# Altium integrated library LF_SFF_AC.IntLib: 18 symbols
Pins are listed as number, name and electrical type; pins without a type are passive.

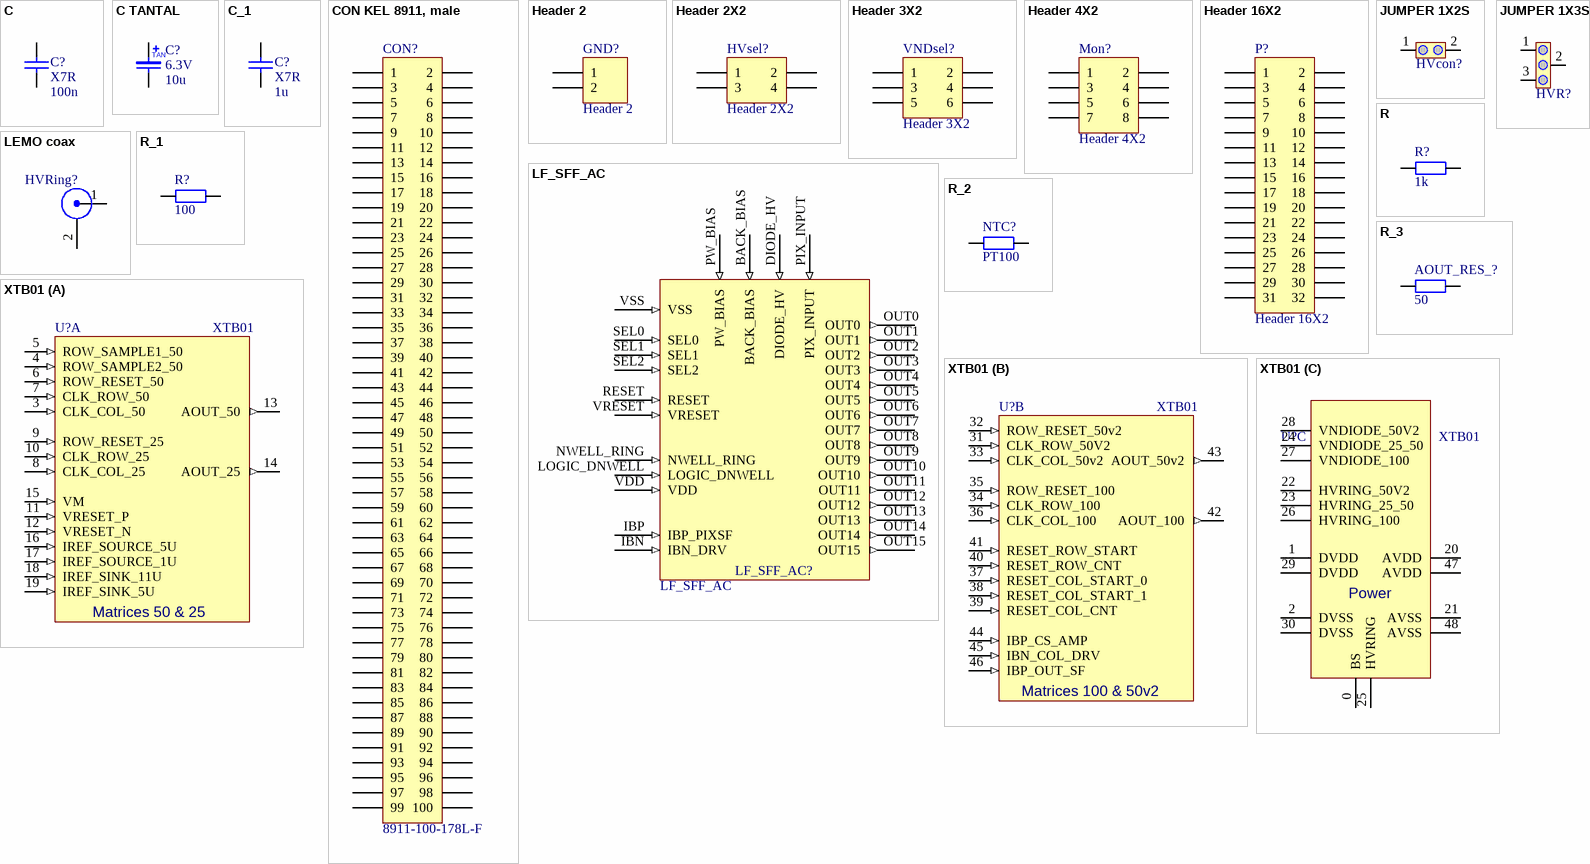
[diagram p0: symbols C to XTB01]

## C
designator C?, comment X7R  value 100n
Capacitor; Constraints: 6.3V; Class: Passive; Type_1: SMD Chip Capacitor; Comment_1: -; LatestRevisionDate: 27-Nov-2007; Publisher: Silab J.S.; HelpURL: -; PackageDescription: -
signal-integrity model Capacitor
simulation model Capacitor
footprint AXIAL-0.4
footprint 2320
footprint 5040 (HV capacitor in SMD 5040)
footprint AXIAL-5mm
footprint C0402_imp_L (Chip Capacitor, Body 1.0x0.5mm, IPC High Density)
footprint C0402_imp_M (Chip Capacitor, Body 1.0x0.5mm, IPC Low Density)
footprint C0402_imp_N (Chip Capacitor, Body 1.0x0.5mm, IPC Medium Density)
footprint C0603_imp_L (Chip Capacitor, Body 1.6x0.8mm, IPC High Density)
footprint C0603_imp_M (Chip Capacitor, Body 1.6x0.8mm, IPC Low Density)
footprint C0603_imp_N (Chip Capacitor, Body 1.6x0.8mm, IPC Medium Density)
footprint C0805_imp_L (Chip Capacitor, Body 2.0x1.3mm, IPC High Density)
footprint C0805_imp_M (Chip Capacitor, Body 2.0x1.3mm, IPC Low Density)
footprint C0805_imp_N (Chip Capacitor, Body 2.0x1.3mm, IPC Medium Density)
footprint C1005_met_L (Chip Capacitor, Body 1.0x0.5mm, IPC High Density)
footprint C1005_met_M (Chip Capacitor, Body 1.0x0.5mm, IPC Low Density)
footprint C1005_met_N (Chip Capacitor, Body 1.0x0.5mm, IPC Medium Density)
footprint C1206_imp_L (Chip Capacitor, Body 3.2x1.6mm, IPC High Density)
footprint C1206_imp_M (Chip Capacitor, Body 3.2x1.6mm, IPC Low Density)
footprint C1206_imp_N (Chip Capacitor, Body 3.2x1.6mm, IPC Medium Density)
footprint C1210_met_L (Chip Capacitor, Body 1.2x1.0mm, IPC High Density)
footprint C1210_met_M (Chip Capacitor, Body 1.2x1.0mm, IPC Low Density)
footprint C1210_met_N (Chip Capacitor, Body 1.2x1.0mm, IPC Medium Density)
footprint C1210_imp_L (Chip Capacitor, Body 3.2x2.5mm, IPC High Density)
footprint C1210_imp_M (Chip Capacitor, Body 3.2x2.5mm, IPC Low Density)
footprint C1210_imp_N (Chip Capacitor, Body 3.2x2.5mm, IPC Medium Density)
footprint C1608_met_L (Chip Capacitor, Body 1.6x0.8mm, IPC High Density)
footprint C1608_met_M (Chip Capacitor, Body 1.6x0.8mm, IPC Low Density)
footprint C1608_met_N (Chip Capacitor, Body 1.6x0.8mm, IPC Medium Density)
footprint C1812_imp_L (Chip Capacitor, Body 4.5x3.2mm, IPC High Density)
footprint C1812_imp_M (Chip Capacitor, Body 4.5x3.2mm, IPC Low Density)
footprint C1812_imp_N (Chip Capacitor, Body 4.5x3.2mm, IPC Medium Density)
footprint C2012_met_L (Chip Capacitor, Body 2.0x1.3mm, IPC High Density)
footprint C2012_met_M (Chip Capacitor, Body 2.0x1.3mm, IPC Low Density)
footprint C2012_met_N (Chip Capacitor, Body 2.0x1.3mm, IPC Medium Density)
footprint C2220_imp_L (Chip Capacitor, Body 5.7x5.0mm, IPC High Density)
footprint C2220_imp_M (Chip Capacitor, Body 5.7x5.0mm, IPC Low Density)
footprint C2220_imp_N (Chip Capacitor, Body 5.7x5.0mm, IPC Medium Density)
footprint C3216_met_L (Chip Capacitor, Body 3.2x1.6mm, IPC High Density)
footprint C3216_met_M (Chip Capacitor, Body 3.2x1.6mm, IPC Low Density)
footprint C3216_met_N (Chip Capacitor, Body 3.2x1.6mm, IPC Medium Density)
footprint C3225_met_L (Chip Capacitor, Body 3.2x2.5mm, IPC High Density)
footprint C3225_met_M (Chip Capacitor, Body 3.2x2.5mm, IPC Low Density)
footprint C3225_met_N (Chip Capacitor, Body 3.2x2.5mm, IPC Medium Density)
footprint C4532_met_L (Chip Capacitor, Body 4.5x3.2mm, IPC High Density)
footprint C4532_met_M (Chip Capacitor, Body 4.5x3.2mm, IPC Low Density)
footprint C4532_met_N (Chip Capacitor, Body 4.5x3.2mm, IPC Medium Density)
footprint C4564_met_L (Chip Capacitor, Body 4.5x6.4mm, IPC High Density)
footprint C4564_met_M (Chip Capacitor, Body 4.5x6.4mm, IPC Low Density)
footprint C4564_met_N (Chip Capacitor, Body 4.5x6.4mm, IPC Medium Density)
footprint C5750_met_L (Chip Capacitor, Body 5.7x5.0mm, IPC High Density)
footprint C5750_met_M (Chip Capacitor, Body 5.7x5.0mm, IPC Low Density)
footprint C5750_met_N (Chip Capacitor, Body 5.7x5.0mm, IPC Medium Density)
footprint C0402 BGA-Decoupling (1mm Pitch) (Keramikkapazität 0402 spezielles Footprint für BGA-Decoupling (1mm Pitch) an der Unterseite)
footprint AXIAL-15mm
footprint C_RM_2.54 (Stützkondensator)
footprint C_RM_5.08 (Stützkondensator)
pins: 1, 2

## C TANTAL
designator C?, comment value 10u  Constraints: 6.3V  (hidden comment: -)
Tantal Capacitor; Class: Passive; Type_1: SMD Tantal Capacitor; LatestRevisionDate: 27-Nov-2007; Publisher: Silab J.S.; Comment_1: -; HelpURL: -; PackageDescription: -
simulation model CAP (Capacitor)
signal-integrity model Cap Pol
footprint TANTAL-A (SMD Tantal Bauf. A)
footprint TANTAL-B (SMD Tantal Bauf. B)
footprint TANTAL-C (SMD Tantal Bauf. C)
footprint TANTAL-D (SMD Tantal Bauf. D)
footprint TANTAL-E (SMD Tantal Bauf. E)
footprint AXIAL-5mm
footprint C1206_imp_M (Chip Capacitor, Body 3.2x1.6mm, IPC Low Density)
footprint C1206_imp_N (Chip Capacitor, Body 3.2x1.6mm, IPC Medium Density)
footprint C1206_imp_L (Chip Capacitor, Body 3.2x1.6mm, IPC High Density)
pins: 1, 2
1 alternate drawing of the same symbol
text: TAN

## C_1
designator C?, comment X7R  value 1u
Capacitor; Constraints: 6.3V; Class: Passive; Type_1: SMD Chip Capacitor; Comment_1: -; LatestRevisionDate: 27-Nov-2007; Publisher: Silab J.S.; HelpURL: -; PackageDescription: -
signal-integrity model Capacitor
simulation model Capacitor
footprint AXIAL-0.4
footprint 2320
footprint 5040 (HV capacitor in SMD 5040)
footprint AXIAL-5mm
footprint C0402_imp_L (Chip Capacitor, Body 1.0x0.5mm, IPC High Density)
footprint C0402_imp_M (Chip Capacitor, Body 1.0x0.5mm, IPC Low Density)
footprint C0402_imp_N (Chip Capacitor, Body 1.0x0.5mm, IPC Medium Density)
footprint C0603_imp_L (Chip Capacitor, Body 1.6x0.8mm, IPC High Density)
footprint C0603_imp_M (Chip Capacitor, Body 1.6x0.8mm, IPC Low Density)
footprint C0603_imp_N (Chip Capacitor, Body 1.6x0.8mm, IPC Medium Density)
footprint C0805_imp_L (Chip Capacitor, Body 2.0x1.3mm, IPC High Density)
footprint C0805_imp_M (Chip Capacitor, Body 2.0x1.3mm, IPC Low Density)
footprint C0805_imp_N (Chip Capacitor, Body 2.0x1.3mm, IPC Medium Density)
footprint C1005_met_L (Chip Capacitor, Body 1.0x0.5mm, IPC High Density)
footprint C1005_met_M (Chip Capacitor, Body 1.0x0.5mm, IPC Low Density)
footprint C1005_met_N (Chip Capacitor, Body 1.0x0.5mm, IPC Medium Density)
footprint C1206_imp_L (Chip Capacitor, Body 3.2x1.6mm, IPC High Density)
footprint C1206_imp_M (Chip Capacitor, Body 3.2x1.6mm, IPC Low Density)
footprint C1206_imp_N (Chip Capacitor, Body 3.2x1.6mm, IPC Medium Density)
footprint C1210_met_L (Chip Capacitor, Body 1.2x1.0mm, IPC High Density)
footprint C1210_met_M (Chip Capacitor, Body 1.2x1.0mm, IPC Low Density)
footprint C1210_met_N (Chip Capacitor, Body 1.2x1.0mm, IPC Medium Density)
footprint C1210_imp_L (Chip Capacitor, Body 3.2x2.5mm, IPC High Density)
footprint C1210_imp_M (Chip Capacitor, Body 3.2x2.5mm, IPC Low Density)
footprint C1210_imp_N (Chip Capacitor, Body 3.2x2.5mm, IPC Medium Density)
footprint C1608_met_L (Chip Capacitor, Body 1.6x0.8mm, IPC High Density)
footprint C1608_met_M (Chip Capacitor, Body 1.6x0.8mm, IPC Low Density)
footprint C1608_met_N (Chip Capacitor, Body 1.6x0.8mm, IPC Medium Density)
footprint C1812_imp_L (Chip Capacitor, Body 4.5x3.2mm, IPC High Density)
footprint C1812_imp_M (Chip Capacitor, Body 4.5x3.2mm, IPC Low Density)
footprint C1812_imp_N (Chip Capacitor, Body 4.5x3.2mm, IPC Medium Density)
footprint C2012_met_L (Chip Capacitor, Body 2.0x1.3mm, IPC High Density)
footprint C2012_met_M (Chip Capacitor, Body 2.0x1.3mm, IPC Low Density)
footprint C2012_met_N (Chip Capacitor, Body 2.0x1.3mm, IPC Medium Density)
footprint C2220_imp_L (Chip Capacitor, Body 5.7x5.0mm, IPC High Density)
footprint C2220_imp_M (Chip Capacitor, Body 5.7x5.0mm, IPC Low Density)
footprint C2220_imp_N (Chip Capacitor, Body 5.7x5.0mm, IPC Medium Density)
footprint C3216_met_L (Chip Capacitor, Body 3.2x1.6mm, IPC High Density)
footprint C3216_met_M (Chip Capacitor, Body 3.2x1.6mm, IPC Low Density)
footprint C3216_met_N (Chip Capacitor, Body 3.2x1.6mm, IPC Medium Density)
footprint C3225_met_L (Chip Capacitor, Body 3.2x2.5mm, IPC High Density)
footprint C3225_met_M (Chip Capacitor, Body 3.2x2.5mm, IPC Low Density)
footprint C3225_met_N (Chip Capacitor, Body 3.2x2.5mm, IPC Medium Density)
footprint C4532_met_L (Chip Capacitor, Body 4.5x3.2mm, IPC High Density)
footprint C4532_met_M (Chip Capacitor, Body 4.5x3.2mm, IPC Low Density)
footprint C4532_met_N (Chip Capacitor, Body 4.5x3.2mm, IPC Medium Density)
footprint C4564_met_L (Chip Capacitor, Body 4.5x6.4mm, IPC High Density)
footprint C4564_met_M (Chip Capacitor, Body 4.5x6.4mm, IPC Low Density)
footprint C4564_met_N (Chip Capacitor, Body 4.5x6.4mm, IPC Medium Density)
footprint C5750_met_L (Chip Capacitor, Body 5.7x5.0mm, IPC High Density)
footprint C5750_met_M (Chip Capacitor, Body 5.7x5.0mm, IPC Low Density)
footprint C5750_met_N (Chip Capacitor, Body 5.7x5.0mm, IPC Medium Density)
footprint C0402 BGA-Decoupling (1mm Pitch) (Keramikkapazität 0402 spezielles Footprint für BGA-Decoupling (1mm Pitch) an der Unterseite)
footprint AXIAL-15mm
footprint C_RM_2.54 (Stützkondensator)
footprint C_RM_5.08 (Stützkondensator)
pins: 1, 2

## CON KEL 8911, male
designator CON?, comment Type_1: 8911-100-178L-F  (hidden comment: -)
KEL 8911 100 pin board to board connector; Revision: July-2002: Re-released for DXP Platform.; Publisher: Silab J.S.; Class: Connector; Value: -; Constraints: -; HelpURL: http://www.kel.jp/english/product/Half_8900/8900.pdf; LatestRevisionDate:: 24-Sep-2008; Comment_1: KEL; PackageDescription: -
signal-integrity model Connector
footprint KEL 8911-100-178L-F, PLUG (100 pin plug,  board to board, right angle)
pins: 1, 2, 3, 4, 5, 6, 7, 8, 9, 10, 11, 12, 13, 14, 15, 16, 17, 18, 19, 20, 21, 22, 23, 24, 25, 26, 27, 28, 29, 30, 31, 32, 33, 34, 35, 36, 37, 38, 39, 40, 41, 42, 43, 44, 45, 46, 47, 48, 49, 50, 51, 52, 53, 54, 55, 56, 57, 58, 59, 60, 61, 62, 63, 64, 65, 66, 67, 68, 69, 70, 71, 72, 73, 74, 75, 76, 77, 78, 79, 80, 81, 82, 83, 84, 85, 86, 87, 88, 89, 90, 91, 92, 93, 94, 95, 96, 97, 98, 99, 100

## Header 2
designator GND?
Header, 2-Pin; LatestRevisionDate: 17-Jul-2002; LatestRevisionNote: Re-released for DXP Platform.; Publisher: Altium Limited
footprint HDR1X2 (Connector; Header; 2 Position)
signal-integrity model Connector
pins: 1, 2

## Header 2X2
designator HVsel?
Header, 2-Pin, Dual row; LatestRevisionDate: 17-Jul-2002; LatestRevisionNote: Re-released for DXP Platform.; Publisher: Altium Limited
footprint HDR2X2 (Connector; Header; 2x2 Position)
signal-integrity model Connector
pins: 1, 2, 3, 4

## Header 3X2
designator VNDsel?
Header, 3-Pin, Dual row; LatestRevisionDate: 17-Jul-2002; LatestRevisionNote: Re-released for DXP Platform.; Publisher: Altium Limited
footprint HDR2X3 (Connector; Header; 3x2 Position)
signal-integrity model Connector
pins: 1, 2, 3, 4, 5, 6

## Header 4X2
designator Mon?
Header, 4-Pin, Dual row; LatestRevisionDate: 17-Jul-2002; LatestRevisionNote: Re-released for DXP Platform.; Publisher: Altium Limited
footprint HDR2X4 (Connector; Header; 4x2 Position)
signal-integrity model Connector
pins: 1, 2, 3, 4, 5, 6, 7, 8

## Header 16X2
designator P?
Header, 16-Pin, Dual row; LatestRevisionDate: 17-Jul-2002; LatestRevisionNote: Re-released for DXP Platform.; Publisher: Altium Limited
footprint HDR2X16 (Connector; Header; 16x2 Position)
signal-integrity model Connector
pins: 1, 2, 3, 4, 5, 6, 7, 8, 9, 10, 11, 12, 13, 14, 15, 16, 17, 18, 19, 20, 21, 22, 23, 24, 25, 26, 27, 28, 29, 30, 31, 32

## JUMPER 1X2S
designator HVcon?, comment -  (value not drawn)
Jumper, Solderbridge 1x2; Class: Connector; Comment_1: -; Constraints: -; HelpURL: -; LatestRevisionDate: 24-Sep-2008; Publisher: Silab C.H.; Type_1: -; Value: -; PackageDescription: -
footprint Lötjumper 1x2 (Lötjumper, 2 Pins)
footprint CON 1x2 std
footprint Lötjumper 1x2 - small (Lötjumper, 2 Pins)
footprint solderbridge (SMT Lötbrücke)
footprint SOLDERJUMPER_0603N (Lötjumper, 2 Pins)
footprint solderjumper2 - large area (2 fach Lötjumper)
pins: 1, 2

## JUMPER 1X3S
designator HVR?, comment -  (value not drawn)
Jumper, Solderbridge 1x3; Class: Connector; Comment_1: -; Constraints: -; HelpURL: -; LatestRevisionDate: 24-Sep-2008; Publisher: Silab C.H.; Type_1: -; Value: -; PackageDescription: -
footprint Lötjumper 1x3 (3 fach Lötjumper)
footprint HDR 1x3 (Steckjumper 3 pins)
footprint Lötjumper 1x3 Midlayer1 (3 fach Lötjumper auf Midlayer1)
footprint solderjumper3 (3 fach Lötjumper)
footprint solderjumper3 - large area (3 fach Lötjumper)
pins: 1, 2, 3

## LEMO coax
designator HVRing?, comment -  (value not drawn)
LEMO/BNC Buchse, aufrecht od. gewinkelt; Class: Connector; Comment_1: LEMO; Type_1: EPL.00.250.NTN; Constraints: -; HelpURL: -; LatestRevisionDate: 24-Sep-2008; Publisher: Silab C.H.; Value: -; PackageDescription: -
footprint BNC (BNC Buchse)
footprint LEMO (LEMO Buchse)
footprint LEMO horiz. (LEMO Buchse, liegend)
footprint LEMO - Square GND Pins (LEMO Buchse, stehend, größere Löcher für GND Pins)
pins: 1, 2

## LF_SFF_AC
designator LF_SFF_AC?
footprint LF_SFF_AC_min_footprint (Footprint for the LF SFF AC pure chip without further components)
pins: BACK_BIAS (in), DIODE_HV (in), IBN IBN_DRV (in), IBP IBP_PIXSF (in), LOGIC_DNWELL (in), NWELL_RING (in), OUT0 (out), OUT1 (out), OUT2 (out), OUT3 (out), OUT4 (out), OUT5 (out), OUT6 (out), OUT7 (out), OUT8 (out), OUT9 (out), OUT10 (out), OUT11 (out), OUT12 (out), OUT13 (out), OUT14 (out), OUT15 (out), PIX_INPUT (in), PW_BIAS (in), RESET (in), SEL0 (in), SEL1 (in), SEL2 (in), VDD (in), VRESET (in), VSS (in)

## R
designator R?  value 1k  (hidden comment: R)
SMD Chip Resistor; Constraints: 1%; Class: Passive; Comment_1: -; Publisher: Silab J.S.; LatestRevisionDate: 27-Nov-2007; HelpURL: -; Type_1: SMD Chip Resistor; PackageDescription: -
signal-integrity model Resistor
simulation model Resistor
footprint AXIAL-0.4
footprint 0603 Midlayer1
footprint 1206 Midlayer1
footprint CR1005-0402 (Chip Resistor; Body 1.1 x 0.5 mm (LxW typ))
footprint R0201_imp_L (Chip Resistor, Body 0.6x0.3mm, IPC High Density)
footprint R0201_imp_M (Chip Resistor, Body 0.6x0.3mm, IPC Low Density)
footprint R0201_imp_N (Chip Resistor, Body 0.6x0.3mm, IPC Medium Density)
footprint R0402_imp_L (Chip Resistor, Body 1.1x0.5mm, IPC High Density)
footprint R0402_imp_M (Chip Resistor, Body 1.1x0.5mm, IPC Low Density)
footprint R0402_imp_N (Chip Resistor, Body 1.1x0.5mm, IPC Medium Density)
footprint R0525_met_L (Chip Resistor, Body 0.6x0.3mm, IPC High Density)
footprint R0525_met_M (Chip Resistor, Body 0.6x0.3mm, IPC Low Density)
footprint R0525_met_N (Chip Resistor, Body 0.6x0.3mm, IPC Medium Density)
footprint R0603_imp_N (Chip Resistor, Body 1.6x0.8mm, IPC Medium Density)
footprint R0603_imp_M (Chip Resistor, Body 1.6x0.8mm, IPC Low Density)
footprint R0603_imp_L (Chip Resistor, Body 1.6x0.8mm, IPC High Density)
footprint R0805_imp_L (Chip Resistor, Body 2.0x1.3mm, IPC High Density)
footprint R0805_imp_M (Chip Resistor, Body 2.0x1.3mm, IPC Low Density)
footprint R0805_imp_N (Chip Resistor, Body 2.0x1.3mm, IPC Medium Density)
footprint R1005_met_L (Chip Resistor, Body 1.1x0.5mm, IPC High Density)
footprint R1005_met_M (Chip Resistor, Body 1.1x0.5mm, IPC Low Density)
footprint R1005_met_N (Chip Resistor, Body 1.1x0.5mm, IPC Medium Density)
footprint R1206_imp_L (Chip Resistor, Body 3.2x1.6mm, IPC High Density)
footprint R1206_imp_M (Chip Resistor, Body 3.2x1.6mm, IPC Low Density)
footprint R1206_imp_N (Chip Resistor, Body 3.2x1.6mm, IPC Medium Density)
footprint R1210_imp_L (Chip Resistor, Body 3.2x2.5mm, IPC High Density)
footprint R1210_imp_M (Chip Resistor, Body 3.2x2.5mm, IPC Low Density)
footprint R1210_imp_N (Chip Resistor, Body 3.2x2.5mm, IPC Medium Density)
footprint R1608_met_L (Chip Resistor, Body 1.6x0.8mm, IPC High Density)
footprint R1608_met_M (Chip Resistor, Body 1.6x0.8mm, IPC Low Density)
footprint R1608_met_N (Chip Resistor, Body 1.6x0.8mm, IPC Medium Density)
footprint R2010_imp_L (Chip Resistor, Body 5.0x2.5mm, IPC High Density)
footprint R2010_imp_M (Chip Resistor, Body 5.0x2.5mm, IPC Low Density)
footprint R2010_imp_N (Chip Resistor, Body 5.0x2.5mm, IPC Medium Density)
footprint R2012_met_L (Chip Resistor, Body 2.0x1.3mm, IPC High Density)
footprint R2012_met_M (Chip Resistor, Body 2.0x1.3mm, IPC Low Density)
footprint R2012_met_N (Chip Resistor, Body 2.0x1.3mm, IPC Medium Density)
footprint R2512_imp_L (Chip Resistor, Body 6.3x3.2mm, IPC High Density)
footprint R2512_imp_M (Chip Resistor, Body 6.3x3.2mm, IPC Low Density)
footprint R2512_imp_N (Chip Resistor, Body 6.3x3.2mm, IPC Medium Density)
footprint R3216_met_L (Chip Resistor, Body 3.2x1.6mm, IPC High Density)
footprint R3216_met_M (Chip Resistor, Body 3.2x1.6mm, IPC Low Density)
footprint R3216_met_N (Chip Resistor, Body 3.2x1.6mm, IPC Medium Density)
footprint R3225_met_L (Chip Resistor, Body 3.2x2.5mm, IPC High Density)
footprint R3225_met_M (Chip Resistor, Body 3.2x2.5mm, IPC Low Density)
footprint R3225_met_N (Chip Resistor, Body 3.2x2.5mm, IPC Medium Density)
footprint R4532_met_L (Chip Resistor, Body 4.5x3.2mm, IPC High Density)
footprint R4532_met_M (Chip Resistor, Body 4.5x3.2mm, IPC Low Density)
footprint R4532_met_N (Chip Resistor, Body 4.5x3.2mm, IPC Medium Density)
footprint R5025_met_L (Chip Resistor, Body 5.0x2.5mm, IPC High Density)
footprint R5025_met_M (Chip Resistor, Body 5.0x2.5mm, IPC Low Density)
footprint R5025_met_N (Chip Resistor, Body 5.0x2.5mm, IPC Medium Density)
footprint R6332_met_L (Chip Resistor, Body 6.3x3.2mm, IPC High Density)
footprint R6332_met_M (Chip Resistor, Body 6.3x3.2mm, IPC Low Density)
footprint R6332_met_N (Chip Resistor, Body 6.3x3.2mm, IPC Medium Density)
footprint R2010_IMP_Isabellenhütte (Chip Resistor, Body 5.08 x 2.54mm, Isabellenhütte Shunt Resistor)
footprint R2512_IMP_Isabellenhütte (Chip Resistor, Body 6.35 x 3.05mm, Isabellenhütte Shunt Resistor)
footprint AXIAL-0.6
pins: 1, 2

## R_1
designator R?, comment value 100  (hidden comment: R)
SMD Chip Resistor; Constraints: 1%; Class: Passive; Comment_1: -; Publisher: Silab J.S.; LatestRevisionDate: 27-Nov-2007; HelpURL: -; Type_1: SMD Chip Resistor; PackageDescription: -
signal-integrity model Resistor
simulation model Resistor
footprint AXIAL-0.4
footprint 0603 Midlayer1
footprint 1206 Midlayer1
footprint CR1005-0402 (Chip Resistor; Body 1.1 x 0.5 mm (LxW typ))
footprint R0201_imp_L (Chip Resistor, Body 0.6x0.3mm, IPC High Density)
footprint R0201_imp_M (Chip Resistor, Body 0.6x0.3mm, IPC Low Density)
footprint R0201_imp_N (Chip Resistor, Body 0.6x0.3mm, IPC Medium Density)
footprint R0402_imp_L (Chip Resistor, Body 1.1x0.5mm, IPC High Density)
footprint R0402_imp_M (Chip Resistor, Body 1.1x0.5mm, IPC Low Density)
footprint R0402_imp_N (Chip Resistor, Body 1.1x0.5mm, IPC Medium Density)
footprint R0525_met_L (Chip Resistor, Body 0.6x0.3mm, IPC High Density)
footprint R0525_met_M (Chip Resistor, Body 0.6x0.3mm, IPC Low Density)
footprint R0525_met_N (Chip Resistor, Body 0.6x0.3mm, IPC Medium Density)
footprint R0603_imp_N (Chip Resistor, Body 1.6x0.8mm, IPC Medium Density)
footprint R0603_imp_M (Chip Resistor, Body 1.6x0.8mm, IPC Low Density)
footprint R0603_imp_L (Chip Resistor, Body 1.6x0.8mm, IPC High Density)
footprint R0805_imp_L (Chip Resistor, Body 2.0x1.3mm, IPC High Density)
footprint R0805_imp_M (Chip Resistor, Body 2.0x1.3mm, IPC Low Density)
footprint R0805_imp_N (Chip Resistor, Body 2.0x1.3mm, IPC Medium Density)
footprint R1005_met_L (Chip Resistor, Body 1.1x0.5mm, IPC High Density)
footprint R1005_met_M (Chip Resistor, Body 1.1x0.5mm, IPC Low Density)
footprint R1005_met_N (Chip Resistor, Body 1.1x0.5mm, IPC Medium Density)
footprint R1206_imp_L (Chip Resistor, Body 3.2x1.6mm, IPC High Density)
footprint R1206_imp_M (Chip Resistor, Body 3.2x1.6mm, IPC Low Density)
footprint R1206_imp_N (Chip Resistor, Body 3.2x1.6mm, IPC Medium Density)
footprint R1210_imp_L (Chip Resistor, Body 3.2x2.5mm, IPC High Density)
footprint R1210_imp_M (Chip Resistor, Body 3.2x2.5mm, IPC Low Density)
footprint R1210_imp_N (Chip Resistor, Body 3.2x2.5mm, IPC Medium Density)
footprint R1608_met_L (Chip Resistor, Body 1.6x0.8mm, IPC High Density)
footprint R1608_met_M (Chip Resistor, Body 1.6x0.8mm, IPC Low Density)
footprint R1608_met_N (Chip Resistor, Body 1.6x0.8mm, IPC Medium Density)
footprint R2010_imp_L (Chip Resistor, Body 5.0x2.5mm, IPC High Density)
footprint R2010_imp_M (Chip Resistor, Body 5.0x2.5mm, IPC Low Density)
footprint R2010_imp_N (Chip Resistor, Body 5.0x2.5mm, IPC Medium Density)
footprint R2012_met_L (Chip Resistor, Body 2.0x1.3mm, IPC High Density)
footprint R2012_met_M (Chip Resistor, Body 2.0x1.3mm, IPC Low Density)
footprint R2012_met_N (Chip Resistor, Body 2.0x1.3mm, IPC Medium Density)
footprint R2512_imp_L (Chip Resistor, Body 6.3x3.2mm, IPC High Density)
footprint R2512_imp_M (Chip Resistor, Body 6.3x3.2mm, IPC Low Density)
footprint R2512_imp_N (Chip Resistor, Body 6.3x3.2mm, IPC Medium Density)
footprint R3216_met_L (Chip Resistor, Body 3.2x1.6mm, IPC High Density)
footprint R3216_met_M (Chip Resistor, Body 3.2x1.6mm, IPC Low Density)
footprint R3216_met_N (Chip Resistor, Body 3.2x1.6mm, IPC Medium Density)
footprint R3225_met_L (Chip Resistor, Body 3.2x2.5mm, IPC High Density)
footprint R3225_met_M (Chip Resistor, Body 3.2x2.5mm, IPC Low Density)
footprint R3225_met_N (Chip Resistor, Body 3.2x2.5mm, IPC Medium Density)
footprint R4532_met_L (Chip Resistor, Body 4.5x3.2mm, IPC High Density)
footprint R4532_met_M (Chip Resistor, Body 4.5x3.2mm, IPC Low Density)
footprint R4532_met_N (Chip Resistor, Body 4.5x3.2mm, IPC Medium Density)
footprint R5025_met_L (Chip Resistor, Body 5.0x2.5mm, IPC High Density)
footprint R5025_met_M (Chip Resistor, Body 5.0x2.5mm, IPC Low Density)
footprint R5025_met_N (Chip Resistor, Body 5.0x2.5mm, IPC Medium Density)
footprint R6332_met_L (Chip Resistor, Body 6.3x3.2mm, IPC High Density)
footprint R6332_met_M (Chip Resistor, Body 6.3x3.2mm, IPC Low Density)
footprint R6332_met_N (Chip Resistor, Body 6.3x3.2mm, IPC Medium Density)
footprint R2010_IMP_Isabellenhütte (Chip Resistor, Body 5.08 x 2.54mm, Isabellenhütte Shunt Resistor)
footprint R2512_IMP_Isabellenhütte (Chip Resistor, Body 6.35 x 3.05mm, Isabellenhütte Shunt Resistor)
footprint AXIAL-0.6
pins: 1, 2

## R_2
designator NTC?, comment value PT100  (hidden comment: PT100 or similar)
SMD Chip Resistor; Constraints: 1%; Class: Passive; Comment_1: -; Publisher: Silab J.S.; LatestRevisionDate: 27-Nov-2007; HelpURL: -; Type_1: SMD Chip Resistor; PackageDescription: -
signal-integrity model Resistor
simulation model Resistor
footprint AXIAL-0.4
footprint 0603 Midlayer1
footprint 1206 Midlayer1
footprint CR1005-0402 (Chip Resistor; Body 1.1 x 0.5 mm (LxW typ))
footprint R0201_imp_L (Chip Resistor, Body 0.6x0.3mm, IPC High Density)
footprint R0201_imp_M (Chip Resistor, Body 0.6x0.3mm, IPC Low Density)
footprint R0201_imp_N (Chip Resistor, Body 0.6x0.3mm, IPC Medium Density)
footprint R0402_imp_L (Chip Resistor, Body 1.1x0.5mm, IPC High Density)
footprint R0402_imp_M (Chip Resistor, Body 1.1x0.5mm, IPC Low Density)
footprint R0402_imp_N (Chip Resistor, Body 1.1x0.5mm, IPC Medium Density)
footprint R0525_met_L (Chip Resistor, Body 0.6x0.3mm, IPC High Density)
footprint R0525_met_M (Chip Resistor, Body 0.6x0.3mm, IPC Low Density)
footprint R0525_met_N (Chip Resistor, Body 0.6x0.3mm, IPC Medium Density)
footprint R0603_imp_N (Chip Resistor, Body 1.6x0.8mm, IPC Medium Density)
footprint R0603_imp_M (Chip Resistor, Body 1.6x0.8mm, IPC Low Density)
footprint R0603_imp_L (Chip Resistor, Body 1.6x0.8mm, IPC High Density)
footprint R0805_imp_L (Chip Resistor, Body 2.0x1.3mm, IPC High Density)
footprint R0805_imp_M (Chip Resistor, Body 2.0x1.3mm, IPC Low Density)
footprint R0805_imp_N (Chip Resistor, Body 2.0x1.3mm, IPC Medium Density)
footprint R1005_met_L (Chip Resistor, Body 1.1x0.5mm, IPC High Density)
footprint R1005_met_M (Chip Resistor, Body 1.1x0.5mm, IPC Low Density)
footprint R1005_met_N (Chip Resistor, Body 1.1x0.5mm, IPC Medium Density)
footprint R1206_imp_L (Chip Resistor, Body 3.2x1.6mm, IPC High Density)
footprint R1206_imp_M (Chip Resistor, Body 3.2x1.6mm, IPC Low Density)
footprint R1206_imp_N (Chip Resistor, Body 3.2x1.6mm, IPC Medium Density)
footprint R1210_imp_L (Chip Resistor, Body 3.2x2.5mm, IPC High Density)
footprint R1210_imp_M (Chip Resistor, Body 3.2x2.5mm, IPC Low Density)
footprint R1210_imp_N (Chip Resistor, Body 3.2x2.5mm, IPC Medium Density)
footprint R1608_met_L (Chip Resistor, Body 1.6x0.8mm, IPC High Density)
footprint R1608_met_M (Chip Resistor, Body 1.6x0.8mm, IPC Low Density)
footprint R1608_met_N (Chip Resistor, Body 1.6x0.8mm, IPC Medium Density)
footprint R2010_imp_L (Chip Resistor, Body 5.0x2.5mm, IPC High Density)
footprint R2010_imp_M (Chip Resistor, Body 5.0x2.5mm, IPC Low Density)
footprint R2010_imp_N (Chip Resistor, Body 5.0x2.5mm, IPC Medium Density)
footprint R2012_met_L (Chip Resistor, Body 2.0x1.3mm, IPC High Density)
footprint R2012_met_M (Chip Resistor, Body 2.0x1.3mm, IPC Low Density)
footprint R2012_met_N (Chip Resistor, Body 2.0x1.3mm, IPC Medium Density)
footprint R2512_imp_L (Chip Resistor, Body 6.3x3.2mm, IPC High Density)
footprint R2512_imp_M (Chip Resistor, Body 6.3x3.2mm, IPC Low Density)
footprint R2512_imp_N (Chip Resistor, Body 6.3x3.2mm, IPC Medium Density)
footprint R3216_met_L (Chip Resistor, Body 3.2x1.6mm, IPC High Density)
footprint R3216_met_M (Chip Resistor, Body 3.2x1.6mm, IPC Low Density)
footprint R3216_met_N (Chip Resistor, Body 3.2x1.6mm, IPC Medium Density)
footprint R3225_met_L (Chip Resistor, Body 3.2x2.5mm, IPC High Density)
footprint R3225_met_M (Chip Resistor, Body 3.2x2.5mm, IPC Low Density)
footprint R3225_met_N (Chip Resistor, Body 3.2x2.5mm, IPC Medium Density)
footprint R4532_met_L (Chip Resistor, Body 4.5x3.2mm, IPC High Density)
footprint R4532_met_M (Chip Resistor, Body 4.5x3.2mm, IPC Low Density)
footprint R4532_met_N (Chip Resistor, Body 4.5x3.2mm, IPC Medium Density)
footprint R5025_met_L (Chip Resistor, Body 5.0x2.5mm, IPC High Density)
footprint R5025_met_M (Chip Resistor, Body 5.0x2.5mm, IPC Low Density)
footprint R5025_met_N (Chip Resistor, Body 5.0x2.5mm, IPC Medium Density)
footprint R6332_met_L (Chip Resistor, Body 6.3x3.2mm, IPC High Density)
footprint R6332_met_M (Chip Resistor, Body 6.3x3.2mm, IPC Low Density)
footprint R6332_met_N (Chip Resistor, Body 6.3x3.2mm, IPC Medium Density)
footprint R2010_IMP_Isabellenhütte (Chip Resistor, Body 5.08 x 2.54mm, Isabellenhütte Shunt Resistor)
footprint R2512_IMP_Isabellenhütte (Chip Resistor, Body 6.35 x 3.05mm, Isabellenhütte Shunt Resistor)
footprint AXIAL-0.6
pins: 1, 2

## R_3
designator AOUT_RES_?, comment value 50  (hidden comment: R)
SMD Chip Resistor; Constraints: 1%; Class: Passive; Comment_1: -; Publisher: Silab J.S.; LatestRevisionDate: 27-Nov-2007; HelpURL: -; Type_1: SMD Chip Resistor; PackageDescription: -
signal-integrity model Resistor
simulation model Resistor
footprint AXIAL-0.4
footprint 0603 Midlayer1
footprint 1206 Midlayer1
footprint CR1005-0402 (Chip Resistor; Body 1.1 x 0.5 mm (LxW typ))
footprint R0201_imp_L (Chip Resistor, Body 0.6x0.3mm, IPC High Density)
footprint R0201_imp_M (Chip Resistor, Body 0.6x0.3mm, IPC Low Density)
footprint R0201_imp_N (Chip Resistor, Body 0.6x0.3mm, IPC Medium Density)
footprint R0402_imp_L (Chip Resistor, Body 1.1x0.5mm, IPC High Density)
footprint R0402_imp_M (Chip Resistor, Body 1.1x0.5mm, IPC Low Density)
footprint R0402_imp_N (Chip Resistor, Body 1.1x0.5mm, IPC Medium Density)
footprint R0525_met_L (Chip Resistor, Body 0.6x0.3mm, IPC High Density)
footprint R0525_met_M (Chip Resistor, Body 0.6x0.3mm, IPC Low Density)
footprint R0525_met_N (Chip Resistor, Body 0.6x0.3mm, IPC Medium Density)
footprint R0603_imp_N (Chip Resistor, Body 1.6x0.8mm, IPC Medium Density)
footprint R0603_imp_M (Chip Resistor, Body 1.6x0.8mm, IPC Low Density)
footprint R0603_imp_L (Chip Resistor, Body 1.6x0.8mm, IPC High Density)
footprint R0805_imp_L (Chip Resistor, Body 2.0x1.3mm, IPC High Density)
footprint R0805_imp_M (Chip Resistor, Body 2.0x1.3mm, IPC Low Density)
footprint R0805_imp_N (Chip Resistor, Body 2.0x1.3mm, IPC Medium Density)
footprint R1005_met_L (Chip Resistor, Body 1.1x0.5mm, IPC High Density)
footprint R1005_met_M (Chip Resistor, Body 1.1x0.5mm, IPC Low Density)
footprint R1005_met_N (Chip Resistor, Body 1.1x0.5mm, IPC Medium Density)
footprint R1206_imp_L (Chip Resistor, Body 3.2x1.6mm, IPC High Density)
footprint R1206_imp_M (Chip Resistor, Body 3.2x1.6mm, IPC Low Density)
footprint R1206_imp_N (Chip Resistor, Body 3.2x1.6mm, IPC Medium Density)
footprint R1210_imp_L (Chip Resistor, Body 3.2x2.5mm, IPC High Density)
footprint R1210_imp_M (Chip Resistor, Body 3.2x2.5mm, IPC Low Density)
footprint R1210_imp_N (Chip Resistor, Body 3.2x2.5mm, IPC Medium Density)
footprint R1608_met_L (Chip Resistor, Body 1.6x0.8mm, IPC High Density)
footprint R1608_met_M (Chip Resistor, Body 1.6x0.8mm, IPC Low Density)
footprint R1608_met_N (Chip Resistor, Body 1.6x0.8mm, IPC Medium Density)
footprint R2010_imp_L (Chip Resistor, Body 5.0x2.5mm, IPC High Density)
footprint R2010_imp_M (Chip Resistor, Body 5.0x2.5mm, IPC Low Density)
footprint R2010_imp_N (Chip Resistor, Body 5.0x2.5mm, IPC Medium Density)
footprint R2012_met_L (Chip Resistor, Body 2.0x1.3mm, IPC High Density)
footprint R2012_met_M (Chip Resistor, Body 2.0x1.3mm, IPC Low Density)
footprint R2012_met_N (Chip Resistor, Body 2.0x1.3mm, IPC Medium Density)
footprint R2512_imp_L (Chip Resistor, Body 6.3x3.2mm, IPC High Density)
footprint R2512_imp_M (Chip Resistor, Body 6.3x3.2mm, IPC Low Density)
footprint R2512_imp_N (Chip Resistor, Body 6.3x3.2mm, IPC Medium Density)
footprint R3216_met_L (Chip Resistor, Body 3.2x1.6mm, IPC High Density)
footprint R3216_met_M (Chip Resistor, Body 3.2x1.6mm, IPC Low Density)
footprint R3216_met_N (Chip Resistor, Body 3.2x1.6mm, IPC Medium Density)
footprint R3225_met_L (Chip Resistor, Body 3.2x2.5mm, IPC High Density)
footprint R3225_met_M (Chip Resistor, Body 3.2x2.5mm, IPC Low Density)
footprint R3225_met_N (Chip Resistor, Body 3.2x2.5mm, IPC Medium Density)
footprint R4532_met_L (Chip Resistor, Body 4.5x3.2mm, IPC High Density)
footprint R4532_met_M (Chip Resistor, Body 4.5x3.2mm, IPC Low Density)
footprint R4532_met_N (Chip Resistor, Body 4.5x3.2mm, IPC Medium Density)
footprint R5025_met_L (Chip Resistor, Body 5.0x2.5mm, IPC High Density)
footprint R5025_met_M (Chip Resistor, Body 5.0x2.5mm, IPC Low Density)
footprint R5025_met_N (Chip Resistor, Body 5.0x2.5mm, IPC Medium Density)
footprint R6332_met_L (Chip Resistor, Body 6.3x3.2mm, IPC High Density)
footprint R6332_met_M (Chip Resistor, Body 6.3x3.2mm, IPC Low Density)
footprint R6332_met_N (Chip Resistor, Body 6.3x3.2mm, IPC Medium Density)
footprint R2010_IMP_Isabellenhütte (Chip Resistor, Body 5.08 x 2.54mm, Isabellenhütte Shunt Resistor)
footprint R2512_IMP_Isabellenhütte (Chip Resistor, Body 6.35 x 3.05mm, Isabellenhütte Shunt Resistor)
footprint AXIAL-0.6
pins: 1, 2

## XTB01
designator U?
XFAB SOI Pixel Matrix, XTB01 July 2013
footprint XTB01_48_A
part A pins: 3 CLK_COL_50 (in), 4 ROW_SAMPLE2_50 (in), 5 ROW_SAMPLE1_50 (in), 6 ROW_RESET_50 (in), 7 CLK_ROW_50 (in), 8 CLK_COL_25 (in), 9 ROW_RESET_25 (in), 10 CLK_ROW_25 (in), 11 VRESET_P (in), 12 VRESET_N (in), 13 AOUT_50 (out), 14 AOUT_25 (out), 15 VM (in), 16 IREF_SOURCE_5U (in), 17 IREF_SOURCE_1U (in), 18 IREF_SINK_11U (in), 19 IREF_SINK_5U (in)
part B pins: 31 CLK_ROW_50V2 (in), 32 ROW_RESET_50v2 (in), 33 CLK_COL_50v2 (in), 34 CLK_ROW_100 (in), 35 ROW_RESET_100 (in), 36 CLK_COL_100 (in), 37 RESET_COL_START_0 (in), 38 RESET_COL_START_1 (in), 39 RESET_COL_CNT (in), 40 RESET_ROW_CNT (in), 41 RESET_ROW_START (in), 42 AOUT_100 (out), 43 AOUT_50v2 (out), 44 IBP_CS_AMP (in), 45 IBN_COL_DRV (in), 46 IBP_OUT_SF (in)
part C pins: 0 BS (power), 1 DVDD (power), 2 DVSS (power), 20 AVDD (power), 21 AVSS (power), 22 HVRING_50V2 (power), 23 HVRING_25_50 (power), 24 VNDIODE_25_50 (power), 25 HVRING (power), 26 HVRING_100 (power), 27 VNDIODE_100 (power), 28 VNDIODE_50V2 (power), 29 DVDD (power), 30 DVSS (power), 47 AVDD (power), 48 AVSS (power)
part A text: Matrices 50 & 25
part B text: Matrices 100 & 50v2
part C text: Power